# EAGLE library part SBBB1284_FOOTPRINT (library MTS-OTR_Custom)
SBBB1284 - SUPER BARE BONES BOARD USING ATMEGA1284P-PU BARE FOOTPRINT TO CONNECT SBBB1284 INTO NEW PROJECTS USING EITHER 16MHZ OR 20MHZ BOOTLOADERS KEPT FOOTPRINT AS SIMPLE AS POSSIBLE
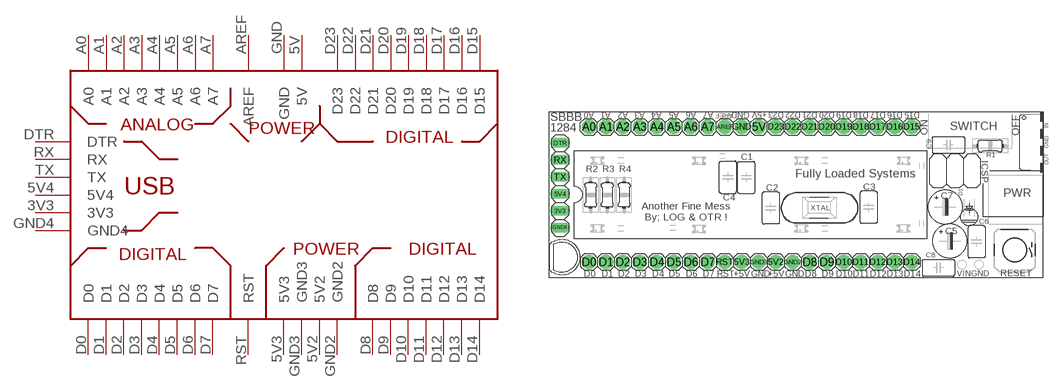
[diagram p39: symbol with the pads of SBBB1284_FOOTPRINT; footprint SBBB1284_FOOTPRINT]

Designator prefix -

## SBBB1284_FOOTPRINT  [SBBB1284_FOOTPRINT]
3V3  3V3
5V  5V
5V2  5V2
5V3  5V3
5V4  5V4
A0  A0
A1  A1
A2  A2
A3  A3
A4  A4
A5  A5
A6  A6
A7  A7
AREF  AREF
D0  D0
D1  D1
D2  D2
D3  D3
D4  D4
D5  D5
D6  D6
D7  D7
D8  D8
D9  D9
D10  D10
D11  D11
D12  D12
D13  D13
D14  D14
D15  D15
D16  D16
D17  D17
D18  D18
D19  D19
D20  D20
D21  D21
D22  D22
D23  D23
DTR  DTR
GND  GND
GND2  GND2
GND3  GND3
GND4  GND4
RST  RST
RX  RX
TX  TX

## Footprint SBBB1284_FOOTPRINT (pad centres in mm)
Package generated by make-group2pac.ulp from: E:/BACKUP/PROJECTS BACKUP/EBAY SELLING BACKUP/SBBB-1284 --- NFET/SBBB 1284 R3 --- NFET.brd at: 19/07/2017 21:21
drill 1.016 long: 3V3 1.72,9.93; 5V4 1.72,12.47; DTR 1.72,20.09; GND4 1.72,7.39; RX 1.72,17.55; TX 1.72,15.01
drill 1 pad 2.1: 5V 31.45,22.51; 5V2 33.99,2.26; 5V3 28.91,2.26; A0 6.05,22.51; A1 8.59,22.51; A2 11.13,22.51; A3 13.67,22.51; A4 16.21,22.51; A5 18.75,22.51; A6 21.29,22.51; A7 23.83,22.51; AREF 26.37,22.51; D0 6.05,2.26; D1 8.59,2.26; D2 11.13,2.26; D3 13.67,2.26; D4 16.21,2.26; D5 18.75,2.26; D6 21.29,2.26; D7 23.83,2.26; D8 39.07,2.26; D9 41.61,2.26; D10 44.15,2.26; D11 46.69,2.26; D12 49.23,2.26; D13 51.77,2.26; D14 54.31,2.26; D15 54.31,22.51; D16 51.77,22.51; D17 49.23,22.51; D18 46.69,22.51; D19 44.15,22.51; D20 41.61,22.51; D21 39.07,22.51; D22 36.53,22.51; D23 33.99,22.51; GND 28.91,22.51; GND2 36.53,2.26; GND3 31.45,2.26; RST 26.37,2.26